# Altium footprint library TO252-SPE-UA78Mxx.PcbLib: 1 footprints
Each footprint in its own frame and in the unit in brackets; x right, y up, seen from the top. Pads: shape width x height; smd on the part's side, far side on the other; paste and mask are expansions set on the pad; w line width, h text height; cw(c..) or ccw(c..) is an arc to the next point about the centre after c.
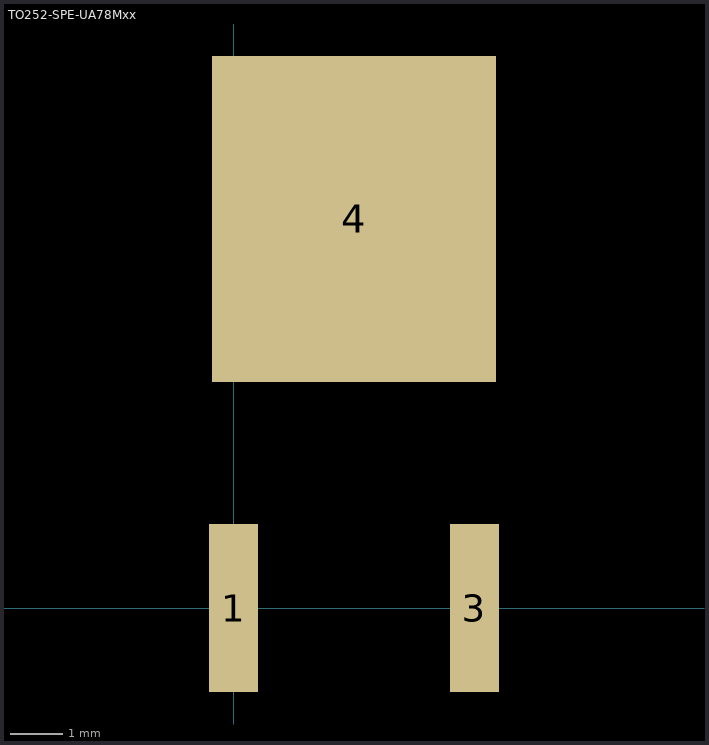
[diagram p0: the footprint, top view; thin cyan lines are the x and y axes]

## TO252-SPE-UA78Mxx [mm]
pads (3):
  rect 0.93x3.2 smd: 1(0,0) 3(4.58,0)
  rect 5.4x6.2 smd: 4(2.29,7.4)
3D body: height 2.37, standoff -0.03, extent -1.044,-0.3 5.69,9.8